# Altium integrated library Analog Devices Data Converters Analog-to-Digital Converters.IntLib: 2400 symbols (part 204 of 338)
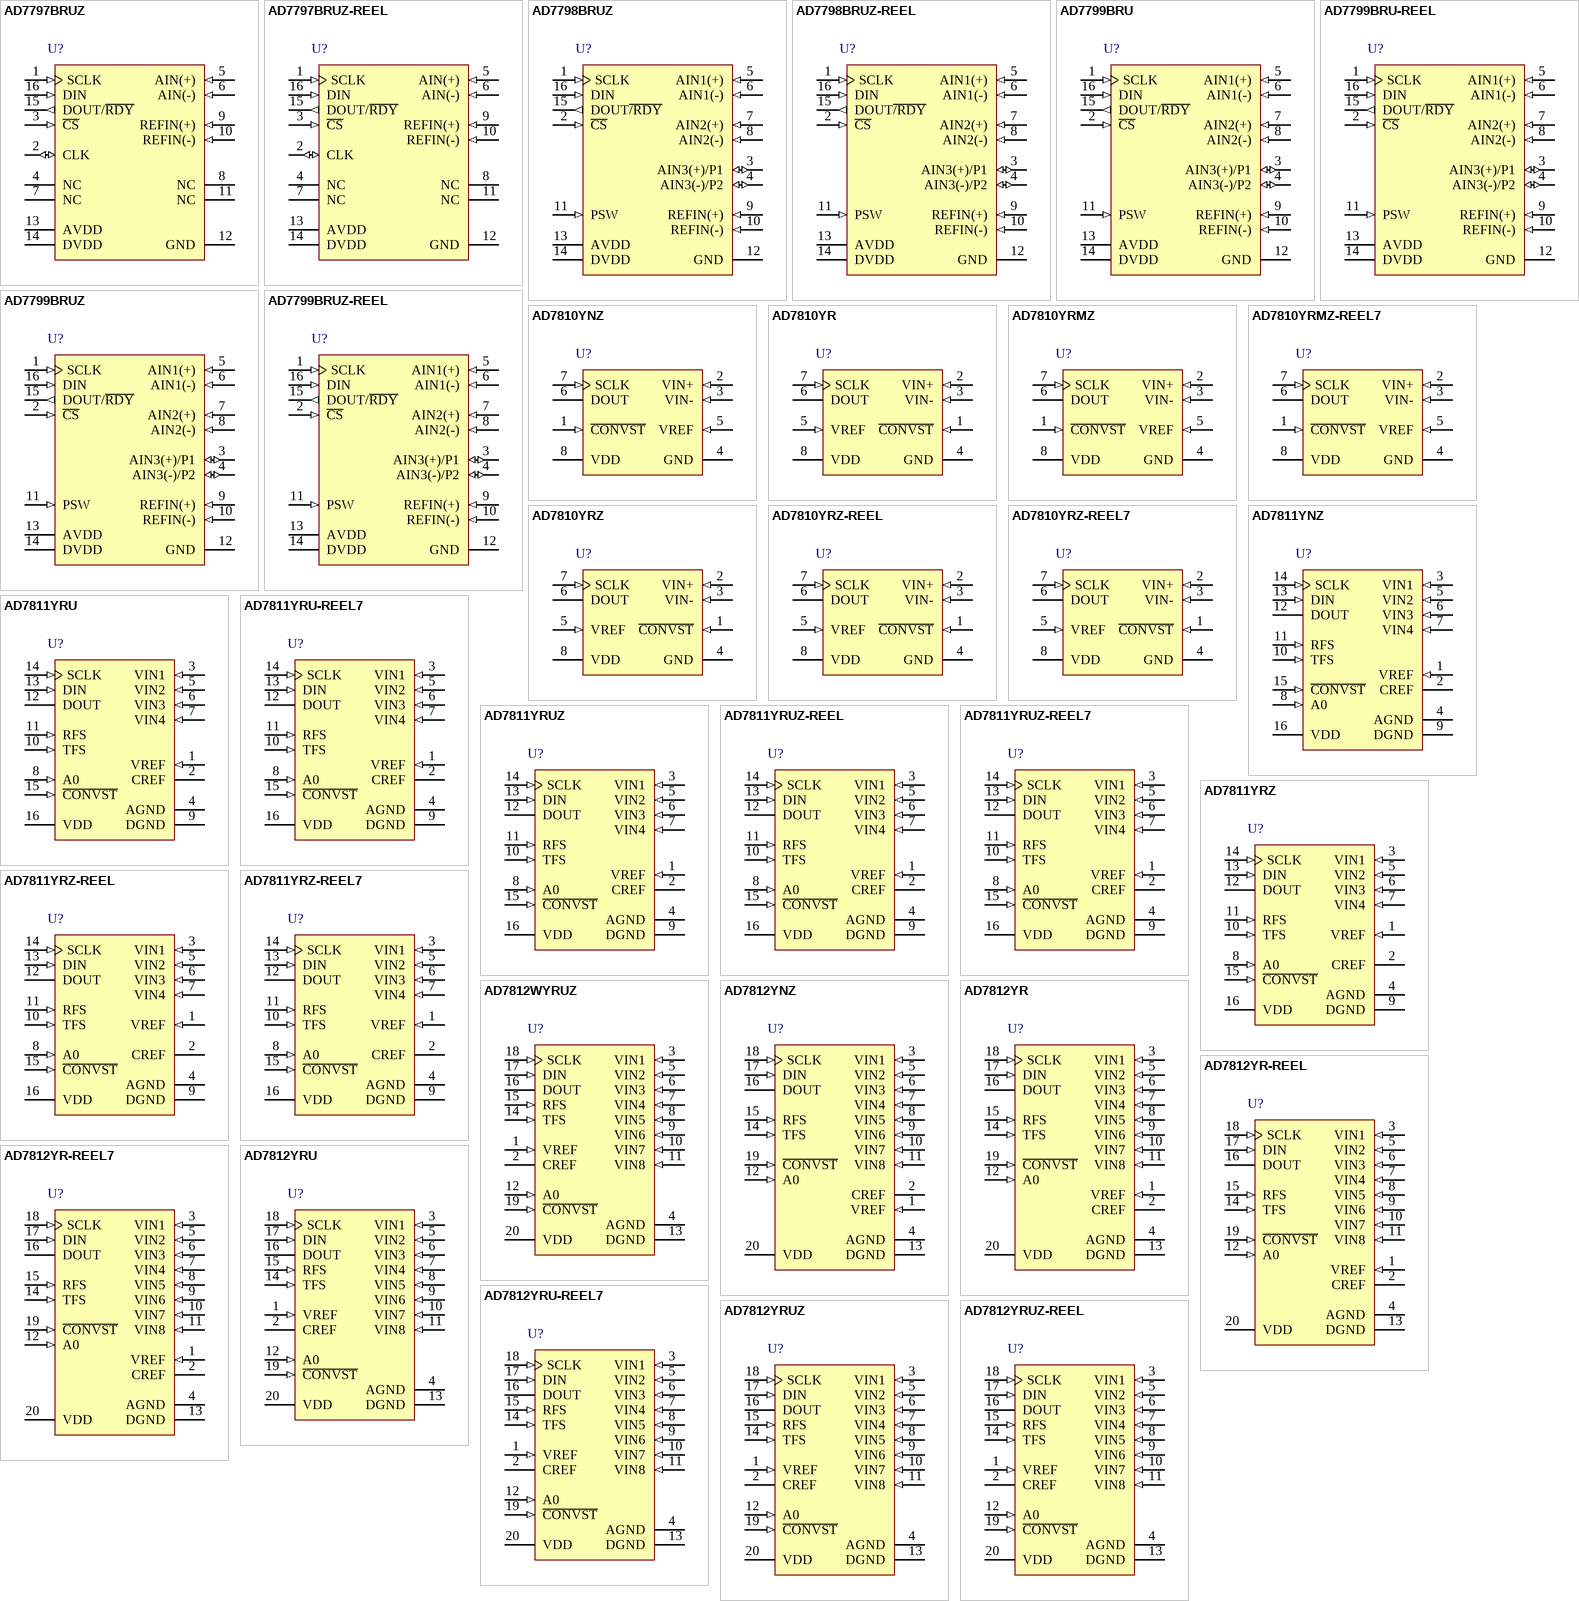
[diagram p367: symbols AD7797BRUZ to AD7812YRUZ-REEL]

## AD7810YRMZ
designator U?
Single 10-Bit Analog-to-Digital Converter with Serial Interface, 2.3 us, 2.7 V to 5.5 V, 350KSPS, -40 to +105 degC, RM-8, Pb-Free, Tube; Part Number: AD7810; Manufacturer: Analog Devices; Resolution (Bits): 10; Channels: 1; Throughput Rate (SPS): 350K; Interface: Ser; DatasheetVersion: Rev.B; PackageVersion: Aug-2005; PackageReference: RM-8; PackageDescription: 8-Lead Mini Small Outline Package [MSOP]; RoHS: Y; Packing: Tube; Mounting Technology: Surface Mount; Code_JEDEC: MO-187-AA; ComponentLink1Description: Manufacturer URL; ComponentLink1URL: http://www.analog.com/en/index.html; ComponentLink2Description: Datasheet; ComponentLink2URL: http://www.analog.com/static/imported-files/data_sheets/AD7810.pdf; ComponentLink3Description: Package Specification; ComponentLink3URL: http://www.analog.com/static/imported-files/packages/PKG_PDF/MSOP%28RM%29/RM_8.pdf; ComponentLink4Description: Product URL; ComponentLink4URL: http://www.analog.com/en/analog-to-digital-converters/ad-converters/ad7810/products/product.html
footprint RM-8_N (TSOP, 8-Leads, Body 3x3mm, Pitch 0.65mm, IPC Medium Density)
footprint RM-8_L (TSOP, 8-Leads, Body 3x3mm, Pitch 0.65mm, IPC High Density)
footprint RM-8_M (TSOP, 8-Leads, Body 3x3mm, Pitch 0.65mm, IPC Low Density)
pins: 1 ~{CONVST} (in) "Convert Start. Falling edge puts the track-and-hold into hold mode and initiates a conversion.A rising edge on the C\O\N\V\S\T\ pin enables the serial port of the AD7810. This is useful in multipackage applications where a (See Datasheet)", 2 VIN+ (in) "Positive input of the pseudo differential analog input.", 3 VIN- (in) "Negative input of the pseudo differential analog input.", 4 GND (power) "Ground reference for analog and digital circuitry.", 5 VREF (in) "External reference is connected here.", 6 DOUT (hiz) "Serial data is shifted out on this pin.", 7 SCLK (in) "Serial Clock. An external serial clock is applied here.", 8 VDD (power) "Positive Supply Voltage 2.7 V to 5.5 V."

## AD7810YRMZ-REEL7
designator U?
Single 10-Bit Analog-to-Digital Converter with Serial Interface, 2.3 us, 2.7 V to 5.5 V, 350KSPS, -40 to +105 degC, RM-8, Pb-Free, Reel; Part Number: AD7810; Manufacturer: Analog Devices; Resolution (Bits): 10; Channels: 1; Throughput Rate (SPS): 350K; Interface: Ser; DatasheetVersion: Rev.B; PackageVersion: Aug-2005; PackageReference: RM-8; PackageDescription: 8-Lead Mini Small Outline Package [MSOP]; RoHS: Y; Packing: Reel; Mounting Technology: Surface Mount; Code_JEDEC: MO-187-AA; ComponentLink1Description: Manufacturer URL; ComponentLink1URL: http://www.analog.com/en/index.html; ComponentLink2Description: Datasheet; ComponentLink2URL: http://www.analog.com/static/imported-files/data_sheets/AD7810.pdf; ComponentLink3Description: Package Specification; ComponentLink3URL: http://www.analog.com/static/imported-files/packages/PKG_PDF/MSOP%28RM%29/RM_8.pdf; ComponentLink4Description: Product URL; ComponentLink4URL: http://www.analog.com/en/analog-to-digital-converters/ad-converters/ad7810/products/product.html
footprint RM-8_N (TSOP, 8-Leads, Body 3x3mm, Pitch 0.65mm, IPC Medium Density)
footprint RM-8_L (TSOP, 8-Leads, Body 3x3mm, Pitch 0.65mm, IPC High Density)
footprint RM-8_M (TSOP, 8-Leads, Body 3x3mm, Pitch 0.65mm, IPC Low Density)
pins: 1 ~{CONVST} (in) "Convert Start. Falling edge puts the track-and-hold into hold mode and initiates a conversion.A rising edge on the C\O\N\V\S\T\ pin enables the serial port of the AD7810. This is useful in multipackage applications where a (See Datasheet)", 2 VIN+ (in) "Positive input of the pseudo differential analog input.", 3 VIN- (in) "Negative input of the pseudo differential analog input.", 4 GND (power) "Ground reference for analog and digital circuitry.", 5 VREF (in) "External reference is connected here.", 6 DOUT (hiz) "Serial data is shifted out on this pin.", 7 SCLK (in) "Serial Clock. An external serial clock is applied here.", 8 VDD (power) "Positive Supply Voltage 2.7 V to 5.5 V."

## AD7810YRZ
designator U?
Single 10-Bit Analog-to-Digital Converter with Serial Interface, 2.3 us, 2.7 V to 5.5 V, 350KSPS, 0 to +70 degC, R-8, Pb-Free, Tube; Part Number: AD7810; Manufacturer: Analog Devices; Resolution (Bits): 10; Channels: 1; Throughput Rate (SPS): 350K; Interface: Ser; DatasheetVersion: Rev.B; PackageVersion: 060506-A; PackageReference: R-8; PackageDescription: 8-Lead Standard Small Outline Package [SOIC_N] Narrow Body; RoHS: Y; Packing: Tube; Mounting Technology: Surface Mount; Code_JEDEC: MS-012-AA; Code_IPC: SOIC127P600-8; ComponentLink1Description: Manufacturer URL; ComponentLink1URL: http://www.analog.com/en/index.html; ComponentLink2Description: Datasheet; ComponentLink2URL: http://www.analog.com/static/imported-files/data_sheets/AD7810.pdf; ComponentLink3Description: Package Specification; ComponentLink3URL: http://www.analog.com/static/imported-files/packages/PKG_PDF/SOIC_Narrow%20(R)/R_8.pdf; ComponentLink4Description: Product URL; ComponentLink4URL: http://www.analog.com/en/analog-to-digital-converters/ad-converters/ad7810/products/product.html
footprint R-8_N (SOIC, 8-Leads, Body 4.9x3.9mm, Pitch 1.27mm, IPC Medium Density)
footprint R-8_L (SOIC, 8-Leads, Body 4.9x3.9mm, Pitch 1.27mm, IPC High Density)
footprint R-8_M (SOIC, 8-Leads, Body 4.9x3.9mm, Pitch 1.27mm, IPC Low Density)
pins: 1 ~{CONVST} (in) "Convert Start. Falling edge puts the track-and-hold into hold mode and initiates a conversion. A rising edge on the C\O\N\V\S\T\ pin enables the serial port of the AD7810. This is useful in multi-package applications where a (See Datasheet)", 2 VIN+ (in) "Positive input of the pseudo differential analog input.", 3 VIN- (in) "Negative input of the pseudo differential analog input.", 4 GND (power) "Ground reference for analog and digital circuitry.", 5 VREF (in) "External reference is connected here.", 6 DOUT (hiz) "Serial data is shifted out on this pin.", 7 SCLK (in) "Serial Clock. An external serial clock is applied here.", 8 VDD (power) "Positive Supply Voltage 2.7 V to 5.5 V."

## AD7810YRZ-REEL
designator U?
Single 10-Bit Analog-to-Digital Converter with Serial Interface, 2.3 us, 2.7 V to 5.5 V, 350KSPS, 0 to +70 degC, R-8, Pb-Free, Reel; Part Number: AD7810; Manufacturer: Analog Devices; Resolution (Bits): 10; Channels: 1; Throughput Rate (SPS): 350K; Interface: Ser; DatasheetVersion: Rev.B; PackageVersion: 060506-A; PackageReference: R-8; PackageDescription: 8-Lead Standard Small Outline Package [SOIC_N] Narrow Body; RoHS: Y; Packing: Reel; Mounting Technology: Surface Mount; Code_JEDEC: MS-012-AA; Code_IPC: SOIC127P600-8; ComponentLink1Description: Manufacturer URL; ComponentLink1URL: http://www.analog.com/en/index.html; ComponentLink2Description: Datasheet; ComponentLink2URL: http://www.analog.com/static/imported-files/data_sheets/AD7810.pdf; ComponentLink3Description: Package Specification; ComponentLink3URL: http://www.analog.com/static/imported-files/packages/PKG_PDF/SOIC_Narrow%20(R)/R_8.pdf; ComponentLink4Description: Product URL; ComponentLink4URL: http://www.analog.com/en/analog-to-digital-converters/ad-converters/ad7810/products/product.html
footprint R-8_N (SOIC, 8-Leads, Body 4.9x3.9mm, Pitch 1.27mm, IPC Medium Density)
footprint R-8_L (SOIC, 8-Leads, Body 4.9x3.9mm, Pitch 1.27mm, IPC High Density)
footprint R-8_M (SOIC, 8-Leads, Body 4.9x3.9mm, Pitch 1.27mm, IPC Low Density)
pins: 1 ~{CONVST} (in) "Convert Start. Falling edge puts the track-and-hold into hold mode and initiates a conversion. A rising edge on the C\O\N\V\S\T\ pin enables the serial port of the AD7810. This is useful in multi-package applications where a (See Datasheet)", 2 VIN+ (in) "Positive input of the pseudo differential analog input.", 3 VIN- (in) "Negative input of the pseudo differential analog input.", 4 GND (power) "Ground reference for analog and digital circuitry.", 5 VREF (in) "External reference is connected here.", 6 DOUT (hiz) "Serial data is shifted out on this pin.", 7 SCLK (in) "Serial Clock. An external serial clock is applied here.", 8 VDD (power) "Positive Supply Voltage 2.7 V to 5.5 V."

## AD7810YRZ-REEL7
designator U?
Single 10-Bit Analog-to-Digital Converter with Serial Interface, 2.3 us, 2.7 V to 5.5 V, 350KSPS, 0 to +70 degC, R-8, Pb-Free, Reel; Part Number: AD7810; Manufacturer: Analog Devices; Resolution (Bits): 10; Channels: 1; Throughput Rate (SPS): 350K; Interface: Ser; DatasheetVersion: Rev.B; PackageVersion: 060506-A; PackageReference: R-8; PackageDescription: 8-Lead Standard Small Outline Package [SOIC_N] Narrow Body; RoHS: Y; Packing: Reel; Mounting Technology: Surface Mount; Code_JEDEC: MS-012-AA; Code_IPC: SOIC127P600-8; ComponentLink1Description: Manufacturer URL; ComponentLink1URL: http://www.analog.com/en/index.html; ComponentLink2Description: Datasheet; ComponentLink2URL: http://www.analog.com/static/imported-files/data_sheets/AD7810.pdf; ComponentLink3Description: Package Specification; ComponentLink3URL: http://www.analog.com/static/imported-files/packages/PKG_PDF/SOIC_Narrow%20(R)/R_8.pdf; ComponentLink4Description: Product URL; ComponentLink4URL: http://www.analog.com/en/analog-to-digital-converters/ad-converters/ad7810/products/product.html
footprint R-8_N (SOIC, 8-Leads, Body 4.9x3.9mm, Pitch 1.27mm, IPC Medium Density)
footprint R-8_L (SOIC, 8-Leads, Body 4.9x3.9mm, Pitch 1.27mm, IPC High Density)
footprint R-8_M (SOIC, 8-Leads, Body 4.9x3.9mm, Pitch 1.27mm, IPC Low Density)
pins: 1 ~{CONVST} (in) "Convert Start. Falling edge puts the track-and-hold into hold mode and initiates a conversion. A rising edge on the C\O\N\V\S\T\ pin enables the serial port of the AD7810. This is useful in multi-package applications where a (See Datasheet)", 2 VIN+ (in) "Positive input of the pseudo differential analog input.", 3 VIN- (in) "Negative input of the pseudo differential analog input.", 4 GND (power) "Ground reference for analog and digital circuitry.", 5 VREF (in) "External reference is connected here.", 6 DOUT (hiz) "Serial data is shifted out on this pin.", 7 SCLK (in) "Serial Clock. An external serial clock is applied here.", 8 VDD (power) "Positive Supply Voltage 2.7 V to 5.5 V."

## AD7811YNZ
designator U?
Quad 10-Bit Sampling Analog-to-Digital Converter with Serial Interface, 2.7 V to 5.5 V, 350KSPS, -40 to +105 degC, N-16, Pb-Free, Tube; Part Number: AD7811; Manufacturer: Analog Devices; Resolution (Bits): 10; Channels: 4; Throughput Rate (SPS): 350K; Interface: Ser; DatasheetVersion: Rev.B; PackageVersion: 070706-A; PackageReference: N-16; PackageDescription: 16-Lead Plastic Dual In-Line Package [PDIP] Narrow Body; RoHS: Y; Packing: Tube; Mounting Technology: Through-hole; Code_JEDEC: MS-001; ComponentLink1Description: Manufacturer URL; ComponentLink1URL: http://www.analog.com/en/index.html; ComponentLink2Description: Datasheet; ComponentLink2URL: http://www.analog.com/static/imported-files/data_sheets/AD7811_7812.pdf; ComponentLink3Description: Package Specification; ComponentLink3URL: http://www.analog.com/static/imported-files/packages/44768431550332N_16.pdf; ComponentLink4Description: Product URL; ComponentLink4URL: http://www.analog.com/en/analog-to-digital-converters/ad-converters/ad7811/products/product.html
footprint N-16 (DIP, 16-Leads, Row Spacing 7.62mm, Pitch 2.54mm, Body 20.1x6.6mm)
pins: 1 VREF (in) "An external reference input can be applied here. When using an external precision reference or VDD the EXTREF bit in the control register must be set to logic one. The external reference input range is 1.2 V to VDD.", 2 CREF "Reference Capacitor. A capacitor (10 nF) is connected here to improve the noise performance of the on-chip reference.", 3 VIN1 (in) "Analog Inputs. The analog input range is 0 V to VREF.", 4 AGND (power) "Analog Ground. Ground reference for track/hold, comparator, on-chip reference and DAC.", 5 VIN2 (in) "Analog Inputs. The analog input range is 0 V to VREF.", 6 VIN3 (in) "Analog Inputs. The analog input range is 0 V to VREF.", 7 VIN4 (in) "Analog Inputs. The analog input range is 0 V to VREF.", 8 A0 (in) "Package Address Pin. This Logic Input can be hardwired high or low. When used in conjunction with the package address bit in the control register this input allows two devices to share the same serial bus. For example a (See Datasheet)", 9 DGND (power) "Digital Ground. Ground reference for digital circuitry.", 10 TFS (in) "Transmit Frame Sync. The falling edge of this Logic Input tells the part that a new control byte should be shifted in on the next 10 falling edges of SCLK.", 11 RFS (in) "Receive Frame Sync. The rising edge of this Logic Input is used to enable a counter in the serial interface. It is used to provide compatibility with DSPs which use a continuous serial clock and framing signal. In (See Datasheet)", 12 DOUT (hiz) "Serial Data Output. Serial data is shifted out on this pin on the rising edge of the serial clock. The output enters a High impedance condition on the rising edge of the 11th SCLK pulse.", 13 DIN (in) "Serial Data Input. The control byte is read in at this input. In order to complete a serial write operation 13 SCLK pulses need to be provided. Only the first 10 bits are shifted in--see Serial Interface section.", 14 SCLK (in) "Serial Clock Input. An external serial clock is applied to this input to obtain serial data from the AD7811/AD7812  and also to latch data into the AD7811/AD7812. Data is clocked out on the rising edge of SCLK and latched in (See Datasheet)", 15 ~{CONVST} (in) "Convert Start. This is an edge triggered logic input. The Track/Hold goes into its Hold Mode on the falling edge of this signal and a conversion is initiated. The state of this pin at the end of conversion also determines (See Datasheet)", 16 VDD (power) "Positive Supply Voltage 2.7 V to 5.5 V."